# Altium integrated library Cypress USB Controllers.IntLib: 169 symbols (part 15 of 15)
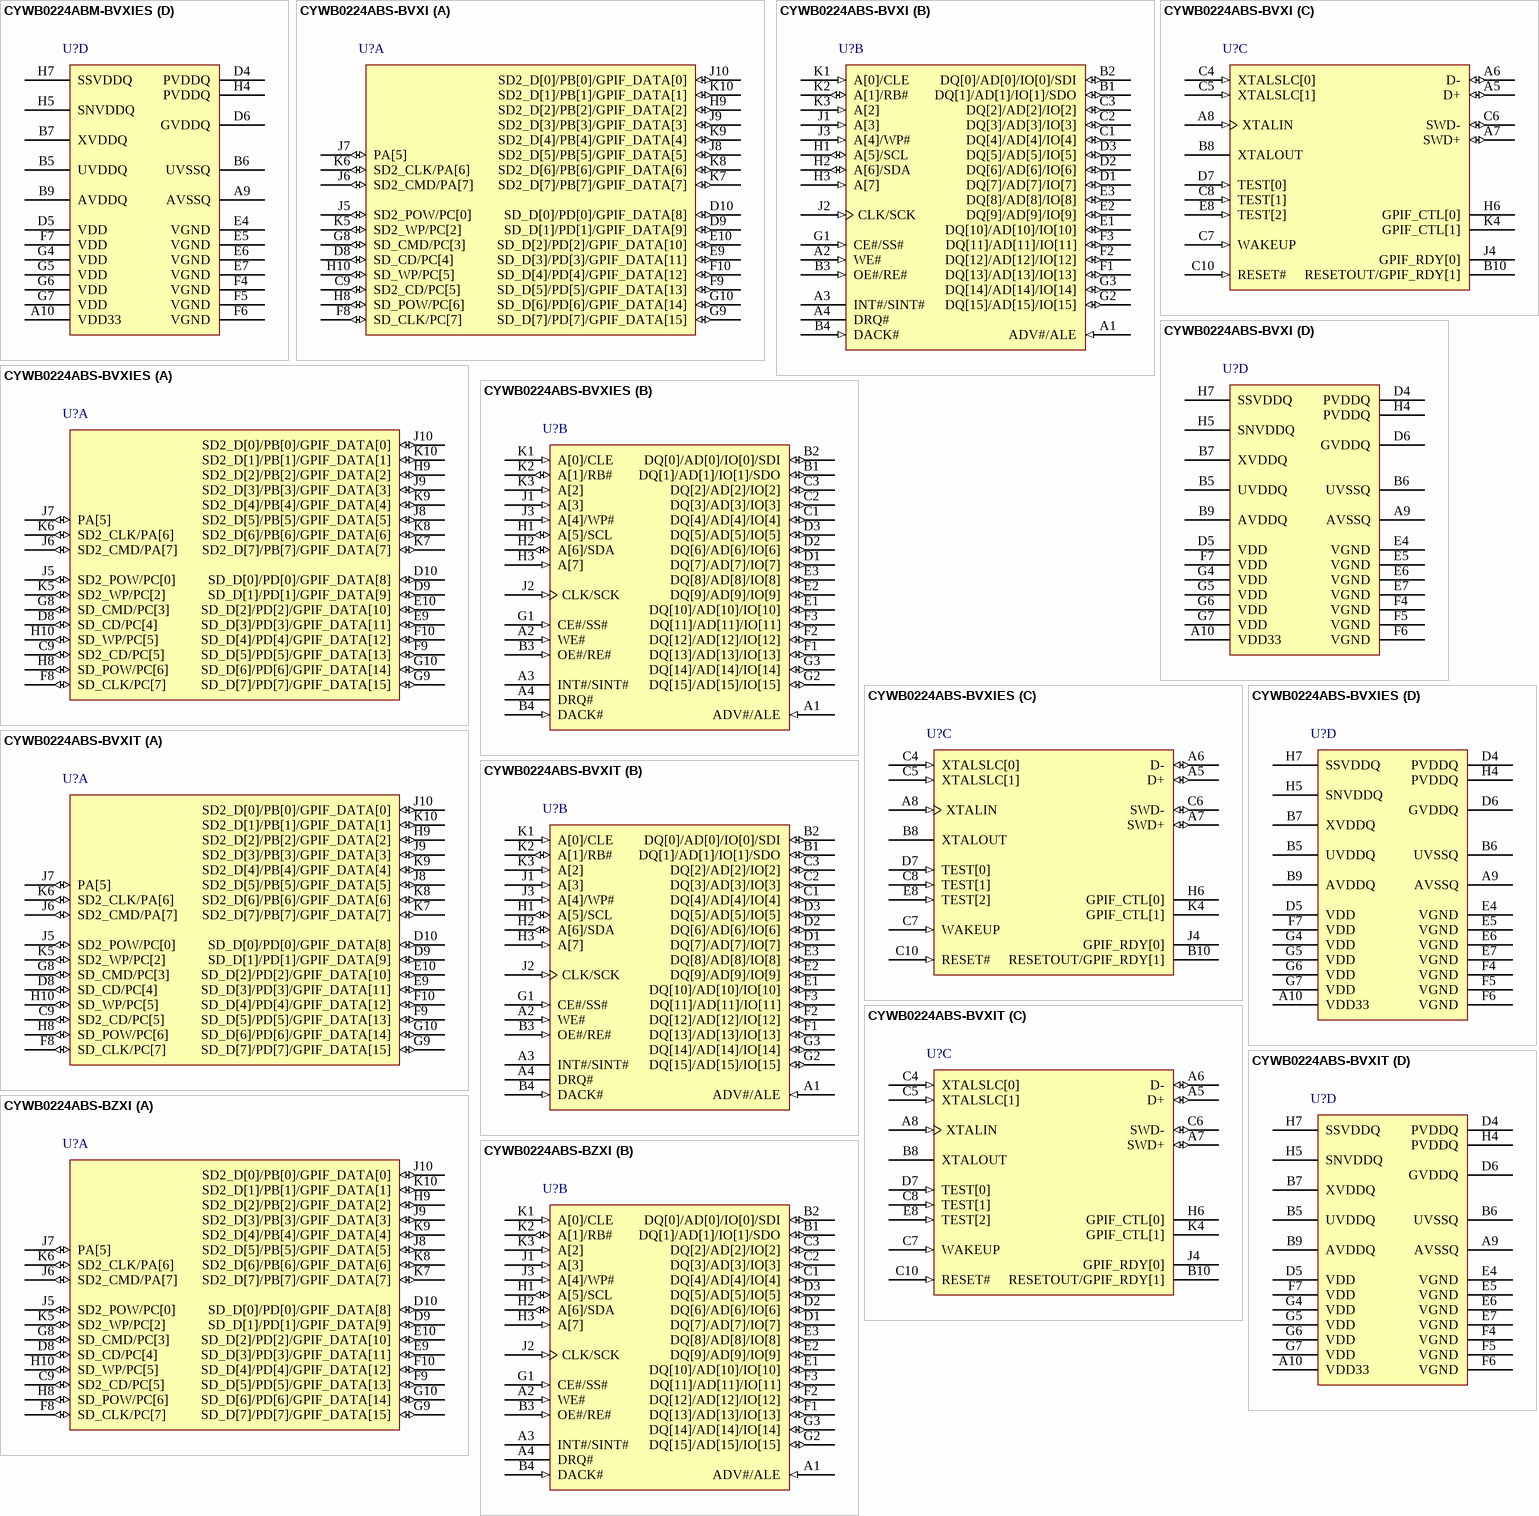
[diagram p36: symbols CYWB0224ABM-BVXIES to CYWB0224ABS-BZXI]

## CYWB0224ABM-BVXIES
designator U?
West Bridge(R) Astoria(TM) USB and Mass Storage Peripheral Controller, -40 to 85 degC, 100-Pin VFBGA (BVX100); Manufacturer: Cypress; PartNumber: CYWB0224ABM-BVXIES; Max. Operating Voltage (V): 3.3; Min. Operating Voltage (V): 1.8; Populated: Yes; DatasheetVersion: Rev. *N; PackageVersion: Rev. *D; PackageReference: BVX100; PackageDescription: 100-Ball Fine-Pitch Ball Grid Array, Body 6 x 6 mm, Pitch 0.50 mm; Max. Operating Temp. (degreesC): 85; Min. Operating Temp. (degreesC): -40; RoHS: Pb-Free; Mounting Technology: Surface Mount; ComponentLink1Description: Manufacturer URL; ComponentLink1URL: http://www.cypress.com/; ComponentLink2Description: Datasheet; ComponentLink2URL: http://www.cypress.com/?docID=41721; ComponentLink3Description: Package Specification; ComponentLink3URL: http://www.cypress.com/?docID=46966
footprint CYP-BVX100 (BGA, 100-Balls, Body 6x6mm, Pitch 0.5mm)
part A pins: C9 SD2_CD/PC[5] (io), D8 SD_CD/PC[4] (io), D9 SD_D[1]/PD[1]/GPIF_DATA[9] (io), D10 SD_D[0]/PD[0]/GPIF_DATA[8] (io), E9 SD_D[3]/PD[3]/GPIF_DATA[11] (io), E10 SD_D[2]/PD[2]/GPIF_DATA[10] (io), F8 SD_CLK/PC[7] (io), F9 SD_D[5]/PD[5]/GPIF_DATA[13] (io), F10 SD_D[4]/PD[4]/GPIF_DATA[12] (io), G8 SD_CMD/PC[3] (io), G9 SD_D[7]/PD[7]/GPIF_DATA[15] (io), G10 SD_D[6]/PD[6]/GPIF_DATA[14] (io), H8 SD_POW/PC[6] (io), H9 SD2_D[2]/PB[2]/GPIF_DATA[2] (io), H10 SD_WP/PC[5] (io) "SD Write Protect", J5 SD2_POW/PC[0] (io), J6 SD2_CMD/PA[7] (io), J7 PA[5] (io), J8 SD2_D[5]/PB[5]/GPIF_DATA[5] (io), J9 SD2_D[3]/PB[3]/GPIF_DATA[3] (io), J10 SD2_D[0]/PB[0]/GPIF_DATA[0] (io), K5 SD2_WP/PC[2] (io), K6 SD2_CLK/PA[6] (io), K7 SD2_D[7]/PB[7]/GPIF_DATA[7] (io), K8 SD2_D[6]/PB[6]/GPIF_DATA[6] (io), K9 SD2_D[4]/PB[4]/GPIF_DATA[4] (io), K10 SD2_D[1]/PB[1]/GPIF_DATA[1] (io)
part B pins: A1 ADV#/ALE (in), A2 WE# (in), A3 INT#/SINT# (hiz), A4 DRQ# (hiz) "DMA Request", B1 DQ[1]/AD[1]/IO[1]/SDO (io), B2 DQ[0]/AD[0]/IO[0]/SDI (io), B3 OE#/RE# (in), B4 DACK# (in) "DMA Acknowledgement", C1 DQ[4]/AD[4]/IO[4] (io), C2 DQ[3]/AD[3]/IO[3] (io), C3 DQ[2]/AD[2]/IO[2] (io), D1 DQ[7]/AD[7]/IO[7] (io), D2 DQ[6]/AD[6]/IO[6] (io), D3 DQ[5]/AD[5]/IO[5] (io), E1 DQ[10]/AD[10]/IO[10] (io), E2 DQ[9]/AD[9]/IO[9] (io), E3 DQ[8]/AD[8]/IO[8] (io), F1 DQ[13]/AD[13]/IO[13] (io), F2 DQ[12]/AD[12]/IO[12] (io), F3 DQ[11]/AD[11]/IO[11] (io), G1 CE#/SS# (in), G2 DQ[15]/AD[15]/IO[15] (io), G3 DQ[14]/AD[14]/IO[14] (io), H1 A[5]/SCL (io), H2 A[6]/SDA (io), H3 A[7] (in) "Addr. Bus 7", J1 A[3] (in) "Addr. Bus 3", J2 CLK/SCK (in), J3 A[4]/WP# (in), K1 A[0]/CLE (in), K2 A[1]/RB# (io), K3 A[2] (in) "Addr. Bus 2"
part C pins: A5 D+ (io) "USB D+", A6 D- (io) "USB D-", A7 SWD+ (io) "USB Switch DP", A8 XTALIN (in) "Crystal / Clock IN", B8 XTALOUT "Crystal Out", B10 RESETOUT/GPIF_RDY[1] (hiz), C4 XTALSLC[0] (in) "Clock Select 0", C5 XTALSLC[1] (in) "Clock Select 1", C6 SWD- (io) "USB Switch DM", C7 WAKEUP (in) "Wake Up Signal", C8 TEST[1] (in) "Test Cfg 1", C10 RESET# (in) "RESET", D7 TEST[0] (in) "Test Cfg 0", E8 TEST[2] (in) "Test Cfg 2", H6 GPIF_CTL[0] (hiz), J4 GPIF_RDY[0] (hiz), K4 GPIF_CTL[1] (hiz)
part D pins: A9 AVSSQ (power) "Analog GND", A10 VDD33 (power) "Independent 3.3 V", B5 UVDDQ (power) "USB VDD", B6 UVSSQ (power) "USB GND", B7 XVDDQ (power) "Crystal VDD", B9 AVDDQ (power) "Analog VDD", D4 PVDDQ (power) "Processor I/F VDD", D5 VDD (power) "Core VDD", D6 GVDDQ (power) "Misc I/O VDD", E4 VGND (power) "Core GND", E5 VGND (power) "Core GND", E6 VGND (power) "Core GND", E7 VGND (power) "Core GND", F4 VGND (power) "Core GND", F5 VGND (power) "Core GND", F6 VGND (power) "Core GND", F7 VDD (power) "Core VDD", G4 VDD (power) "Core VDD", G5 VDD (power) "Core VDD", G6 VDD (power) "Core VDD", G7 VDD (power) "Core VDD", H4 PVDDQ (power) "Processor I/F VDD", H5 SNVDDQ (power) "GPIF VDD", H7 SSVDDQ (power) "SDIO VDD"

## CYWB0224ABS-BVXI
designator U?
West Bridge(R) Astoria(TM) USB and Mass Storage Peripheral Controller, -40 to 85 degC, 100-Pin VFBGA (BVX100), Tray; Manufacturer: Cypress; PartNumber: CYWB0224ABS-BVXI; Max. Operating Voltage (V): 3.3; Min. Operating Voltage (V): 1.8; Populated: Yes; DatasheetVersion: Rev. *N; PackageVersion: Rev. *D; PackageReference: BVX100; PackageDescription: 100-Ball Fine-Pitch Ball Grid Array, Body 6 x 6 mm, Pitch 0.50 mm; Supplier 1: Digi-Key; Supplier Part Number 1: CYWB0224ABS-BVXI-ND; Max. Operating Temp. (degreesC): 85; Min. Operating Temp. (degreesC): -40; Packing: Tray; RoHS: Pb-Free; Mounting Technology: Surface Mount; ComponentLink1Description: Manufacturer URL; ComponentLink1URL: http://www.cypress.com/; ComponentLink2Description: Datasheet; ComponentLink2URL: http://www.cypress.com/?docID=41721; ComponentLink3Description: Package Specification; ComponentLink3URL: http://www.cypress.com/?docID=46966
footprint CYP-BVX100 (BGA, 100-Balls, Body 6x6mm, Pitch 0.5mm)
part A pins: C9 SD2_CD/PC[5] (io), D8 SD_CD/PC[4] (io), D9 SD_D[1]/PD[1]/GPIF_DATA[9] (io), D10 SD_D[0]/PD[0]/GPIF_DATA[8] (io), E9 SD_D[3]/PD[3]/GPIF_DATA[11] (io), E10 SD_D[2]/PD[2]/GPIF_DATA[10] (io), F8 SD_CLK/PC[7] (io), F9 SD_D[5]/PD[5]/GPIF_DATA[13] (io), F10 SD_D[4]/PD[4]/GPIF_DATA[12] (io), G8 SD_CMD/PC[3] (io), G9 SD_D[7]/PD[7]/GPIF_DATA[15] (io), G10 SD_D[6]/PD[6]/GPIF_DATA[14] (io), H8 SD_POW/PC[6] (io), H9 SD2_D[2]/PB[2]/GPIF_DATA[2] (io), H10 SD_WP/PC[5] (io) "SD Write Protect", J5 SD2_POW/PC[0] (io), J6 SD2_CMD/PA[7] (io), J7 PA[5] (io), J8 SD2_D[5]/PB[5]/GPIF_DATA[5] (io), J9 SD2_D[3]/PB[3]/GPIF_DATA[3] (io), J10 SD2_D[0]/PB[0]/GPIF_DATA[0] (io), K5 SD2_WP/PC[2] (io), K6 SD2_CLK/PA[6] (io), K7 SD2_D[7]/PB[7]/GPIF_DATA[7] (io), K8 SD2_D[6]/PB[6]/GPIF_DATA[6] (io), K9 SD2_D[4]/PB[4]/GPIF_DATA[4] (io), K10 SD2_D[1]/PB[1]/GPIF_DATA[1] (io)
part B pins: A1 ADV#/ALE (in), A2 WE# (in), A3 INT#/SINT# (hiz), A4 DRQ# (hiz) "DMA Request", B1 DQ[1]/AD[1]/IO[1]/SDO (io), B2 DQ[0]/AD[0]/IO[0]/SDI (io), B3 OE#/RE# (in), B4 DACK# (in) "DMA Acknowledgement", C1 DQ[4]/AD[4]/IO[4] (io), C2 DQ[3]/AD[3]/IO[3] (io), C3 DQ[2]/AD[2]/IO[2] (io), D1 DQ[7]/AD[7]/IO[7] (io), D2 DQ[6]/AD[6]/IO[6] (io), D3 DQ[5]/AD[5]/IO[5] (io), E1 DQ[10]/AD[10]/IO[10] (io), E2 DQ[9]/AD[9]/IO[9] (io), E3 DQ[8]/AD[8]/IO[8] (io), F1 DQ[13]/AD[13]/IO[13] (io), F2 DQ[12]/AD[12]/IO[12] (io), F3 DQ[11]/AD[11]/IO[11] (io), G1 CE#/SS# (in), G2 DQ[15]/AD[15]/IO[15] (io), G3 DQ[14]/AD[14]/IO[14] (io), H1 A[5]/SCL (io), H2 A[6]/SDA (io), H3 A[7] (in) "Addr. Bus 7", J1 A[3] (in) "Addr. Bus 3", J2 CLK/SCK (in), J3 A[4]/WP# (in), K1 A[0]/CLE (in), K2 A[1]/RB# (io), K3 A[2] (in) "Addr. Bus 2"
part C pins: A5 D+ (io) "USB D+", A6 D- (io) "USB D-", A7 SWD+ (io) "USB Switch DP", A8 XTALIN (in) "Crystal / Clock IN", B8 XTALOUT "Crystal Out", B10 RESETOUT/GPIF_RDY[1] (hiz), C4 XTALSLC[0] (in) "Clock Select 0", C5 XTALSLC[1] (in) "Clock Select 1", C6 SWD- (io) "USB Switch DM", C7 WAKEUP (in) "Wake Up Signal", C8 TEST[1] (in) "Test Cfg 1", C10 RESET# (in) "RESET", D7 TEST[0] (in) "Test Cfg 0", E8 TEST[2] (in) "Test Cfg 2", H6 GPIF_CTL[0] (hiz), J4 GPIF_RDY[0] (hiz), K4 GPIF_CTL[1] (hiz)
part D pins: A9 AVSSQ (power) "Analog GND", A10 VDD33 (power) "Independent 3.3 V", B5 UVDDQ (power) "USB VDD", B6 UVSSQ (power) "USB GND", B7 XVDDQ (power) "Crystal VDD", B9 AVDDQ (power) "Analog VDD", D4 PVDDQ (power) "Processor I/F VDD", D5 VDD (power) "Core VDD", D6 GVDDQ (power) "Misc I/O VDD", E4 VGND (power) "Core GND", E5 VGND (power) "Core GND", E6 VGND (power) "Core GND", E7 VGND (power) "Core GND", F4 VGND (power) "Core GND", F5 VGND (power) "Core GND", F6 VGND (power) "Core GND", F7 VDD (power) "Core VDD", G4 VDD (power) "Core VDD", G5 VDD (power) "Core VDD", G6 VDD (power) "Core VDD", G7 VDD (power) "Core VDD", H4 PVDDQ (power) "Processor I/F VDD", H5 SNVDDQ (power) "GPIF VDD", H7 SSVDDQ (power) "SDIO VDD"

## CYWB0224ABS-BVXIES
designator U?
West Bridge(R) Astoria(TM) USB and Mass Storage Peripheral Controller, -40 to 85 degC, 100-Pin VFBGA (BVX100), Tray; Manufacturer: Cypress; PartNumber: CYWB0224ABS-BVXIES; Max. Operating Voltage (V): 3.3; Min. Operating Voltage (V): 1.8; Populated: Yes; DatasheetVersion: Rev. *N; PackageVersion: Rev. *D; PackageReference: BVX100; PackageDescription: 100-Ball Fine-Pitch Ball Grid Array, Body 6 x 6 mm, Pitch 0.50 mm; Max. Operating Temp. (degreesC): 85; Min. Operating Temp. (degreesC): -40; Packing: Tray; RoHS: Pb-Free; Mounting Technology: Surface Mount; ComponentLink1Description: Manufacturer URL; ComponentLink1URL: http://www.cypress.com/; ComponentLink2Description: Datasheet; ComponentLink2URL: http://www.cypress.com/?docID=41721; ComponentLink3Description: Package Specification; ComponentLink3URL: http://www.cypress.com/?docID=46966
footprint CYP-BVX100 (BGA, 100-Balls, Body 6x6mm, Pitch 0.5mm)
part A pins: C9 SD2_CD/PC[5] (io), D8 SD_CD/PC[4] (io), D9 SD_D[1]/PD[1]/GPIF_DATA[9] (io), D10 SD_D[0]/PD[0]/GPIF_DATA[8] (io), E9 SD_D[3]/PD[3]/GPIF_DATA[11] (io), E10 SD_D[2]/PD[2]/GPIF_DATA[10] (io), F8 SD_CLK/PC[7] (io), F9 SD_D[5]/PD[5]/GPIF_DATA[13] (io), F10 SD_D[4]/PD[4]/GPIF_DATA[12] (io), G8 SD_CMD/PC[3] (io), G9 SD_D[7]/PD[7]/GPIF_DATA[15] (io), G10 SD_D[6]/PD[6]/GPIF_DATA[14] (io), H8 SD_POW/PC[6] (io), H9 SD2_D[2]/PB[2]/GPIF_DATA[2] (io), H10 SD_WP/PC[5] (io) "SD Write Protect", J5 SD2_POW/PC[0] (io), J6 SD2_CMD/PA[7] (io), J7 PA[5] (io), J8 SD2_D[5]/PB[5]/GPIF_DATA[5] (io), J9 SD2_D[3]/PB[3]/GPIF_DATA[3] (io), J10 SD2_D[0]/PB[0]/GPIF_DATA[0] (io), K5 SD2_WP/PC[2] (io), K6 SD2_CLK/PA[6] (io), K7 SD2_D[7]/PB[7]/GPIF_DATA[7] (io), K8 SD2_D[6]/PB[6]/GPIF_DATA[6] (io), K9 SD2_D[4]/PB[4]/GPIF_DATA[4] (io), K10 SD2_D[1]/PB[1]/GPIF_DATA[1] (io)
part B pins: A1 ADV#/ALE (in), A2 WE# (in), A3 INT#/SINT# (hiz), A4 DRQ# (hiz) "DMA Request", B1 DQ[1]/AD[1]/IO[1]/SDO (io), B2 DQ[0]/AD[0]/IO[0]/SDI (io), B3 OE#/RE# (in), B4 DACK# (in) "DMA Acknowledgement", C1 DQ[4]/AD[4]/IO[4] (io), C2 DQ[3]/AD[3]/IO[3] (io), C3 DQ[2]/AD[2]/IO[2] (io), D1 DQ[7]/AD[7]/IO[7] (io), D2 DQ[6]/AD[6]/IO[6] (io), D3 DQ[5]/AD[5]/IO[5] (io), E1 DQ[10]/AD[10]/IO[10] (io), E2 DQ[9]/AD[9]/IO[9] (io), E3 DQ[8]/AD[8]/IO[8] (io), F1 DQ[13]/AD[13]/IO[13] (io), F2 DQ[12]/AD[12]/IO[12] (io), F3 DQ[11]/AD[11]/IO[11] (io), G1 CE#/SS# (in), G2 DQ[15]/AD[15]/IO[15] (io), G3 DQ[14]/AD[14]/IO[14] (io), H1 A[5]/SCL (io), H2 A[6]/SDA (io), H3 A[7] (in) "Addr. Bus 7", J1 A[3] (in) "Addr. Bus 3", J2 CLK/SCK (in), J3 A[4]/WP# (in), K1 A[0]/CLE (in), K2 A[1]/RB# (io), K3 A[2] (in) "Addr. Bus 2"
part C pins: A5 D+ (io) "USB D+", A6 D- (io) "USB D-", A7 SWD+ (io) "USB Switch DP", A8 XTALIN (in) "Crystal / Clock IN", B8 XTALOUT "Crystal Out", B10 RESETOUT/GPIF_RDY[1] (hiz), C4 XTALSLC[0] (in) "Clock Select 0", C5 XTALSLC[1] (in) "Clock Select 1", C6 SWD- (io) "USB Switch DM", C7 WAKEUP (in) "Wake Up Signal", C8 TEST[1] (in) "Test Cfg 1", C10 RESET# (in) "RESET", D7 TEST[0] (in) "Test Cfg 0", E8 TEST[2] (in) "Test Cfg 2", H6 GPIF_CTL[0] (hiz), J4 GPIF_RDY[0] (hiz), K4 GPIF_CTL[1] (hiz)
part D pins: A9 AVSSQ (power) "Analog GND", A10 VDD33 (power) "Independent 3.3 V", B5 UVDDQ (power) "USB VDD", B6 UVSSQ (power) "USB GND", B7 XVDDQ (power) "Crystal VDD", B9 AVDDQ (power) "Analog VDD", D4 PVDDQ (power) "Processor I/F VDD", D5 VDD (power) "Core VDD", D6 GVDDQ (power) "Misc I/O VDD", E4 VGND (power) "Core GND", E5 VGND (power) "Core GND", E6 VGND (power) "Core GND", E7 VGND (power) "Core GND", F4 VGND (power) "Core GND", F5 VGND (power) "Core GND", F6 VGND (power) "Core GND", F7 VDD (power) "Core VDD", G4 VDD (power) "Core VDD", G5 VDD (power) "Core VDD", G6 VDD (power) "Core VDD", G7 VDD (power) "Core VDD", H4 PVDDQ (power) "Processor I/F VDD", H5 SNVDDQ (power) "GPIF VDD", H7 SSVDDQ (power) "SDIO VDD"

## CYWB0224ABS-BVXIT
designator U?
West Bridge(R) Astoria(TM) USB and Mass Storage Peripheral Controller, -40 to 85 degC, 100-Pin VFBGA (BVX100), Tape and Reel; Manufacturer: Cypress; PartNumber: CYWB0224ABS-BVXIT; Max. Operating Voltage (V): 3.3; Min. Operating Voltage (V): 1.8; Populated: Yes; DatasheetVersion: Rev. *N; PackageVersion: Rev. *D; PackageReference: BVX100; PackageDescription: 100-Ball Fine-Pitch Ball Grid Array, Body 6 x 6 mm, Pitch 0.50 mm; Supplier 1: Digi-Key; Supplier Part Number 1: CYWB0224ABS-BVXIT-ND; Max. Operating Temp. (degreesC): 85; Min. Operating Temp. (degreesC): -40; Packing: Tape and Reel; RoHS: Pb-Free; Mounting Technology: Surface Mount; ComponentLink1Description: Manufacturer URL; ComponentLink1URL: http://www.cypress.com/; ComponentLink2Description: Datasheet; ComponentLink2URL: http://www.cypress.com/?docID=41721; ComponentLink3Description: Package Specification; ComponentLink3URL: http://www.cypress.com/?docID=46966
footprint CYP-BVX100 (BGA, 100-Balls, Body 6x6mm, Pitch 0.5mm)
part A pins: C9 SD2_CD/PC[5] (io), D8 SD_CD/PC[4] (io), D9 SD_D[1]/PD[1]/GPIF_DATA[9] (io), D10 SD_D[0]/PD[0]/GPIF_DATA[8] (io), E9 SD_D[3]/PD[3]/GPIF_DATA[11] (io), E10 SD_D[2]/PD[2]/GPIF_DATA[10] (io), F8 SD_CLK/PC[7] (io), F9 SD_D[5]/PD[5]/GPIF_DATA[13] (io), F10 SD_D[4]/PD[4]/GPIF_DATA[12] (io), G8 SD_CMD/PC[3] (io), G9 SD_D[7]/PD[7]/GPIF_DATA[15] (io), G10 SD_D[6]/PD[6]/GPIF_DATA[14] (io), H8 SD_POW/PC[6] (io), H9 SD2_D[2]/PB[2]/GPIF_DATA[2] (io), H10 SD_WP/PC[5] (io) "SD Write Protect", J5 SD2_POW/PC[0] (io), J6 SD2_CMD/PA[7] (io), J7 PA[5] (io), J8 SD2_D[5]/PB[5]/GPIF_DATA[5] (io), J9 SD2_D[3]/PB[3]/GPIF_DATA[3] (io), J10 SD2_D[0]/PB[0]/GPIF_DATA[0] (io), K5 SD2_WP/PC[2] (io), K6 SD2_CLK/PA[6] (io), K7 SD2_D[7]/PB[7]/GPIF_DATA[7] (io), K8 SD2_D[6]/PB[6]/GPIF_DATA[6] (io), K9 SD2_D[4]/PB[4]/GPIF_DATA[4] (io), K10 SD2_D[1]/PB[1]/GPIF_DATA[1] (io)
part B pins: A1 ADV#/ALE (in), A2 WE# (in), A3 INT#/SINT# (hiz), A4 DRQ# (hiz) "DMA Request", B1 DQ[1]/AD[1]/IO[1]/SDO (io), B2 DQ[0]/AD[0]/IO[0]/SDI (io), B3 OE#/RE# (in), B4 DACK# (in) "DMA Acknowledgement", C1 DQ[4]/AD[4]/IO[4] (io), C2 DQ[3]/AD[3]/IO[3] (io), C3 DQ[2]/AD[2]/IO[2] (io), D1 DQ[7]/AD[7]/IO[7] (io), D2 DQ[6]/AD[6]/IO[6] (io), D3 DQ[5]/AD[5]/IO[5] (io), E1 DQ[10]/AD[10]/IO[10] (io), E2 DQ[9]/AD[9]/IO[9] (io), E3 DQ[8]/AD[8]/IO[8] (io), F1 DQ[13]/AD[13]/IO[13] (io), F2 DQ[12]/AD[12]/IO[12] (io), F3 DQ[11]/AD[11]/IO[11] (io), G1 CE#/SS# (in), G2 DQ[15]/AD[15]/IO[15] (io), G3 DQ[14]/AD[14]/IO[14] (io), H1 A[5]/SCL (io), H2 A[6]/SDA (io), H3 A[7] (in) "Addr. Bus 7", J1 A[3] (in) "Addr. Bus 3", J2 CLK/SCK (in), J3 A[4]/WP# (in), K1 A[0]/CLE (in), K2 A[1]/RB# (io), K3 A[2] (in) "Addr. Bus 2"
part C pins: A5 D+ (io) "USB D+", A6 D- (io) "USB D-", A7 SWD+ (io) "USB Switch DP", A8 XTALIN (in) "Crystal / Clock IN", B8 XTALOUT "Crystal Out", B10 RESETOUT/GPIF_RDY[1] (hiz), C4 XTALSLC[0] (in) "Clock Select 0", C5 XTALSLC[1] (in) "Clock Select 1", C6 SWD- (io) "USB Switch DM", C7 WAKEUP (in) "Wake Up Signal", C8 TEST[1] (in) "Test Cfg 1", C10 RESET# (in) "RESET", D7 TEST[0] (in) "Test Cfg 0", E8 TEST[2] (in) "Test Cfg 2", H6 GPIF_CTL[0] (hiz), J4 GPIF_RDY[0] (hiz), K4 GPIF_CTL[1] (hiz)
part D pins: A9 AVSSQ (power) "Analog GND", A10 VDD33 (power) "Independent 3.3 V", B5 UVDDQ (power) "USB VDD", B6 UVSSQ (power) "USB GND", B7 XVDDQ (power) "Crystal VDD", B9 AVDDQ (power) "Analog VDD", D4 PVDDQ (power) "Processor I/F VDD", D5 VDD (power) "Core VDD", D6 GVDDQ (power) "Misc I/O VDD", E4 VGND (power) "Core GND", E5 VGND (power) "Core GND", E6 VGND (power) "Core GND", E7 VGND (power) "Core GND", F4 VGND (power) "Core GND", F5 VGND (power) "Core GND", F6 VGND (power) "Core GND", F7 VDD (power) "Core VDD", G4 VDD (power) "Core VDD", G5 VDD (power) "Core VDD", G6 VDD (power) "Core VDD", G7 VDD (power) "Core VDD", H4 PVDDQ (power) "Processor I/F VDD", H5 SNVDDQ (power) "GPIF VDD", H7 SSVDDQ (power) "SDIO VDD"

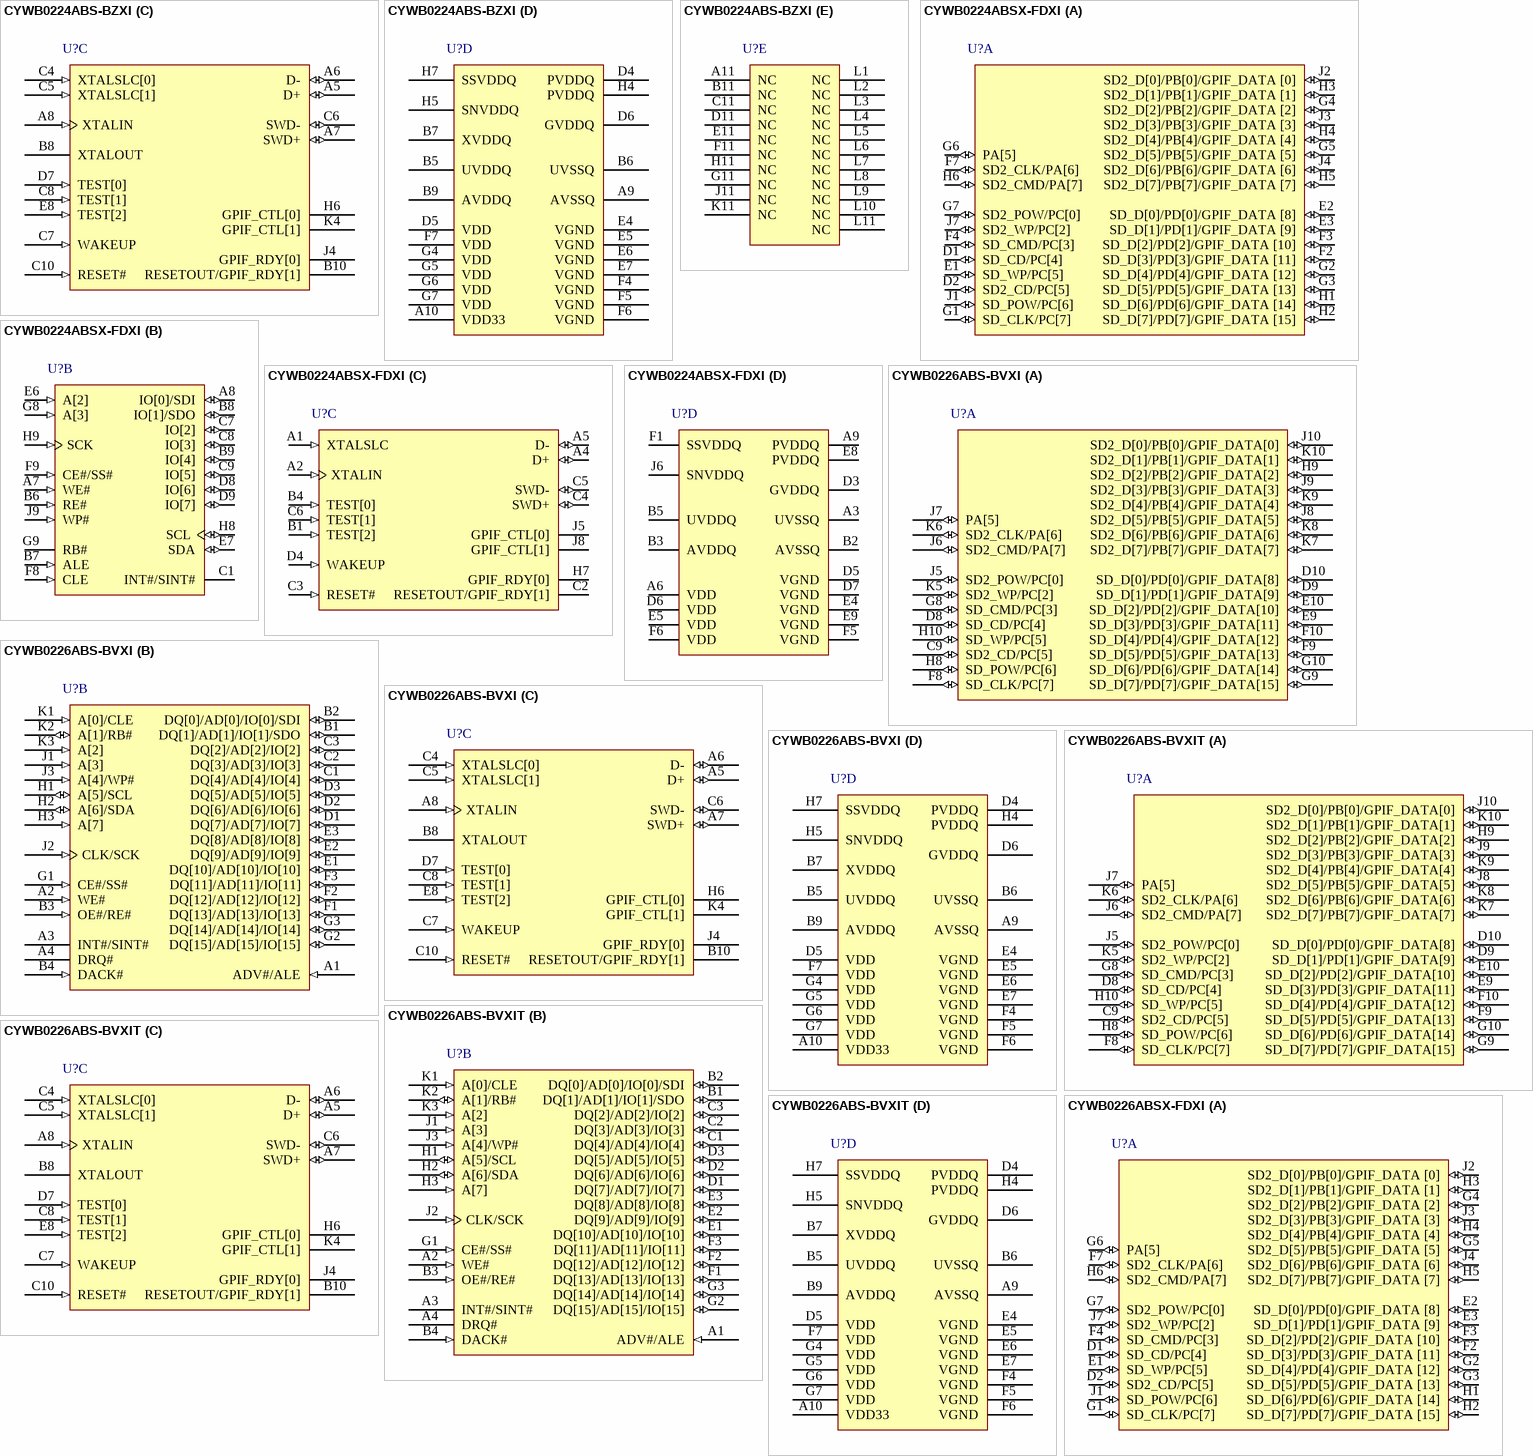
[diagram p20: symbols CYWB0224ABS-BZXI to CYWB0226ABSX-FDXI]

## CYWB0224ABS-BZXI
designator U?
West Bridge(R) Astoria(TM) USB and Mass Storage Peripheral Controller, -40 to 85 degC, 121-Pin FBGA (BZX121); Manufacturer: Cypress; PartNumber: CYWB0224ABS-BZXI; Max. Operating Voltage (V): 3.3; Min. Operating Voltage (V): 1.8; Populated: Yes; DatasheetVersion: Rev. *N; PackageVersion: Rev. *D; PackageReference: BZX121; PackageDescription: 121-Ball FBGA, Body 10 x 10 mm, Pitch 0.8 mm; Supplier 1: Digi-Key; Supplier Part Number 1: CYWB0224ABS-BZXI-ND; Max. Operating Temp. (degreesC): 85; Min. Operating Temp. (degreesC): -40; RoHS: Pb-Free; Mounting Technology: Surface Mount; Code_JEDEC: PUB 95; ComponentLink1Description: Manufacturer URL; ComponentLink1URL: http://www.cypress.com/; ComponentLink2Description: Datasheet; ComponentLink2URL: http://www.cypress.com/?docID=41721; ComponentLink3Description: Package Specification; ComponentLink3URL: http://www.cypress.com/?docID=45795
footprint CYP-BZX121 (BGA, 121-Balls, Body 10x10mm, Pitch 0.8mm)
part A pins: C9 SD2_CD/PC[5] (io), D8 SD_CD/PC[4] (io), D9 SD_D[1]/PD[1]/GPIF_DATA[9] (io), D10 SD_D[0]/PD[0]/GPIF_DATA[8] (io), E9 SD_D[3]/PD[3]/GPIF_DATA[11] (io), E10 SD_D[2]/PD[2]/GPIF_DATA[10] (io), F8 SD_CLK/PC[7] (io), F9 SD_D[5]/PD[5]/GPIF_DATA[13] (io), F10 SD_D[4]/PD[4]/GPIF_DATA[12] (io), G8 SD_CMD/PC[3] (io), G9 SD_D[7]/PD[7]/GPIF_DATA[15] (io), G10 SD_D[6]/PD[6]/GPIF_DATA[14] (io), H8 SD_POW/PC[6] (io), H9 SD2_D[2]/PB[2]/GPIF_DATA[2] (io), H10 SD_WP/PC[5] (io) "SD Write Protect", J5 SD2_POW/PC[0] (io), J6 SD2_CMD/PA[7] (io), J7 PA[5] (io), J8 SD2_D[5]/PB[5]/GPIF_DATA[5] (io), J9 SD2_D[3]/PB[3]/GPIF_DATA[3] (io), J10 SD2_D[0]/PB[0]/GPIF_DATA[0] (io), K5 SD2_WP/PC[2] (io), K6 SD2_CLK/PA[6] (io), K7 SD2_D[7]/PB[7]/GPIF_DATA[7] (io), K8 SD2_D[6]/PB[6]/GPIF_DATA[6] (io), K9 SD2_D[4]/PB[4]/GPIF_DATA[4] (io), K10 SD2_D[1]/PB[1]/GPIF_DATA[1] (io)
part B pins: A1 ADV#/ALE (in), A2 WE# (in), A3 INT#/SINT# (hiz), A4 DRQ# (hiz) "DMA Request", B1 DQ[1]/AD[1]/IO[1]/SDO (io), B2 DQ[0]/AD[0]/IO[0]/SDI (io), B3 OE#/RE# (in), B4 DACK# (in) "DMA Acknowledgement", C1 DQ[4]/AD[4]/IO[4] (io), C2 DQ[3]/AD[3]/IO[3] (io), C3 DQ[2]/AD[2]/IO[2] (io), D1 DQ[7]/AD[7]/IO[7] (io), D2 DQ[6]/AD[6]/IO[6] (io), D3 DQ[5]/AD[5]/IO[5] (io), E1 DQ[10]/AD[10]/IO[10] (io), E2 DQ[9]/AD[9]/IO[9] (io), E3 DQ[8]/AD[8]/IO[8] (io), F1 DQ[13]/AD[13]/IO[13] (io), F2 DQ[12]/AD[12]/IO[12] (io), F3 DQ[11]/AD[11]/IO[11] (io), G1 CE#/SS# (in), G2 DQ[15]/AD[15]/IO[15] (io), G3 DQ[14]/AD[14]/IO[14] (io), H1 A[5]/SCL (io), H2 A[6]/SDA (io), H3 A[7] (in) "Addr. Bus 7", J1 A[3] (in) "Addr. Bus 3", J2 CLK/SCK (in), J3 A[4]/WP# (in), K1 A[0]/CLE (in), K2 A[1]/RB# (io), K3 A[2] (in) "Addr. Bus 2"
part C pins: A5 D+ (io) "USB D+", A6 D- (io) "USB D-", A7 SWD+ (io) "USB Switch DP", A8 XTALIN (in) "Crystal / Clock IN", B8 XTALOUT "Crystal Out", B10 RESETOUT/GPIF_RDY[1] (hiz), C4 XTALSLC[0] (in) "Clock Select 0", C5 XTALSLC[1] (in) "Clock Select 1", C6 SWD- (io) "USB Switch DM", C7 WAKEUP (in) "Wake Up Signal", C8 TEST[1] (in) "Test Cfg 1", C10 RESET# (in) "RESET", D7 TEST[0] (in) "Test Cfg 0", E8 TEST[2] (in) "Test Cfg 2", H6 GPIF_CTL[0] (hiz), J4 GPIF_RDY[0] (hiz), K4 GPIF_CTL[1] (hiz)
part D pins: A9 AVSSQ (power) "Analog GND", A10 VDD33 (power) "Independent 3.3 V", B5 UVDDQ (power) "USB VDD", B6 UVSSQ (power) "USB GND", B7 XVDDQ (power) "Crystal VDD", B9 AVDDQ (power) "Analog VDD", D4 PVDDQ (power) "Processor I/F VDD", D5 VDD (power) "Core VDD", D6 GVDDQ (power) "Misc I/O VDD", E4 VGND (power) "Core GND", E5 VGND (power) "Core GND", E6 VGND (power) "Core GND", E7 VGND (power) "Core GND", F4 VGND (power) "Core GND", F5 VGND (power) "Core GND", F6 VGND (power) "Core GND", F7 VDD (power) "Core VDD", G4 VDD (power) "Core VDD", G5 VDD (power) "Core VDD", G6 VDD (power) "Core VDD", G7 VDD (power) "Core VDD", H4 PVDDQ (power) "Processor I/F VDD", H5 SNVDDQ (power) "GPIF VDD", H7 SSVDDQ (power) "SDIO VDD"
part E pins: A11 NC, B11 NC, C11 NC, D11 NC, E11 NC, F11 NC, G11 NC, H11 NC, J11 NC, K11 NC, L1 NC, L2 NC, L3 NC, L4 NC, L5 NC, L6 NC, L7 NC, L8 NC, L9 NC, L10 NC, L11 NC

## CYWB0224ABSX-FDXI
designator U?
West Bridge(R) Astoria(TM) USB and Mass Storage Peripheral Controller, -40 to 85 degC, 81-Pin WLCSP (FNX81), Tape and Reel; Manufacturer: Cypress; PartNumber: CYWB0224ABSX-FDXI; Max. Operating Voltage (V): 3.3; Min. Operating Voltage (V): 1.8; Populated: Yes; DatasheetVersion: Rev. *N; PackageVersion: Rev. *C; PackageReference: FNX81; PackageDescription: 81-Ball WLCSP, Body 3.91 x 3.907 mm, Pitch 0.4 mm; Max. Operating Temp. (degreesC): 85; Min. Operating Temp. (degreesC): -40; Packing: Tape and Reel; RoHS: Pb-Free; Mounting Technology: Surface Mount; Code_JEDEC: Publication 95; ComponentLink1Description: Manufacturer URL; ComponentLink1URL: http://www.cypress.com/; ComponentLink2Description: Datasheet; ComponentLink2URL: http://www.cypress.com/?docID=41721; ComponentLink3Description: Package Specification; ComponentLink3URL: http://www.cypress.com/?docID=45114
footprint CYP-FNX81 (BGA, 81-Balls, Body 3.91x3.91mm, Pitch 0.4mm)
part A pins: D1 SD_CD/PC[4] (io), D2 SD2_CD/PC[5] (io), E1 SD_WP/PC[5] (io), E2 SD_D[0]/PD[0]/GPIF_DATA [8] (io), E3 SD_D[1]/PD[1]/GPIF_DATA [9] (io), F2 SD_D[3]/PD[3]/GPIF_DATA [11] (io), F3 SD_D[2]/PD[2]/GPIF_DATA [10] (io), F4 SD_CMD/PC[3] (io), F7 SD2_CLK/PA[6] (io), G1 SD_CLK/PC[7] (io), G2 SD_D[4]/PD[4]/GPIF_DATA [12] (io), G3 SD_D[5]/PD[5]/GPIF_DATA [13] (io), G4 SD2_D[2]/PB[2]/GPIF_DATA [2] (io), G5 SD2_D[5]/PB[5]/GPIF_DATA [5] (io), G6 PA[5] (io), G7 SD2_POW/PC[0] (io), H1 SD_D[6]/PD[6]/GPIF_DATA [14] (io), H2 SD_D[7]/PD[7]/GPIF_DATA [15] (io), H3 SD2_D[1]/PB[1]/GPIF_DATA [1] (io), H4 SD2_D[4]/PB[4]/GPIF_DATA [4] (io), H5 SD2_D[7]/PB[7]/GPIF_DATA [7] (io), H6 SD2_CMD/PA[7] (io), J1 SD_POW/PC[6] (io), J2 SD2_D[0]/PB[0]/GPIF_DATA [0] (io), J3 SD2_D[3]/PB[3]/GPIF_DATA [3] (io), J4 SD2_D[6]/PB[6]/GPIF_DATA [6] (io), J7 SD2_WP/PC[2] (io)
part B pins: A7 WE# (in), A8 IO[0]/SDI (io), B6 RE# (in) "Output Enable", B7 ALE (in) "Address Valid", B8 IO[1]/SDO (io), B9 IO[4] (io), C1 INT#/SINT# (hiz), C7 IO[2] (io), C8 IO[3] (io), C9 IO[5] (io), D8 IO[6] (io), D9 IO[7] (io), E6 A[2] (in), E7 SDA (io) "I2C data", F8 CLE (in) "PNAND CLE", F9 CE#/SS# (in), G8 A[3] (in), G9 RB# (hiz) "PNAND R/B#", H8 SCL (io) "I2C clock", H9 SCK (in) "Clock", J9 WP# (in) "PNAND WP"
part C pins: A1 XTALSLC (in) "Clock Select", A2 XTALIN (in) "Crystal / Clock IN", A4 D+ (io) "USB D+", A5 D- (io) "USB D-", B1 TEST[2] (in) "Test Cfg 2", B4 TEST[0] (in) "Test Cfg 0", C2 RESETOUT/GPIF_RDY[1] (hiz), C3 RESET# (in) "RESET", C4 SWD+ (io), C5 SWD- (io), C6 TEST[1] (in) "Test Cfg 1", D4 WAKEUP (in) "Wake Up Signal", H7 GPIF_RDY[0] (hiz), J5 GPIF_CTL[0] (hiz), J8 GPIF_CTL[1] (hiz)
part D pins: A3 UVSSQ (power) "USB GND", A6 VDD (power) "Core VDD", A9 PVDDQ (power) "Processor I/F VDD", B2 AVSSQ (power) "Analog GND", B3 AVDDQ (power) "Analog VDD", B5 UVDDQ (power) "USB VDD", D3 GVDDQ (power) "Misc I/O VDD", D5 VGND (power) "Core GND", D6 VDD (power) "Core VDD", D7 VGND (power) "Core GND", E4 VGND (power) "Core GND", E5 VDD (power) "Core VDD", E8 PVDDQ (power) "Processor I/F VDD", E9 VGND (power) "Core GND", F1 SSVDDQ (power) "SDIO VDD", F5 VGND (power) "Core GND", F6 VDD (power) "Core VDD", J6 SNVDDQ (power) "GPIF VDD"

## CYWB0226ABS-BVXI
designator U?
West Bridge(R) Astoria(TM) USB and Mass Storage Peripheral Controller, -40 to 85 degC, 100-Pin VFBGA (BVX100), Tray; Manufacturer: Cypress; PartNumber: CYWB0226ABS-BVXI; Max. Operating Voltage (V): 3.3; Min. Operating Voltage (V): 1.8; Populated: Yes; DatasheetVersion: Rev. *N; PackageVersion: Rev. *D; PackageReference: BVX100; PackageDescription: 100-Ball Fine-Pitch Ball Grid Array, Body 6 x 6 mm, Pitch 0.50 mm; Supplier 1: Digi-Key; Supplier Part Number 1: CYWB0226ABS-BVXI-ND; Max. Operating Temp. (degreesC): 85; Min. Operating Temp. (degreesC): -40; Packing: Tray; RoHS: Pb-Free; Mounting Technology: Surface Mount; ComponentLink1Description: Manufacturer URL; ComponentLink1URL: http://www.cypress.com/; ComponentLink2Description: Datasheet; ComponentLink2URL: http://www.cypress.com/?docID=41721; ComponentLink3Description: Package Specification; ComponentLink3URL: http://www.cypress.com/?docID=46966
footprint CYP-BVX100 (BGA, 100-Balls, Body 6x6mm, Pitch 0.5mm)
part A pins: C9 SD2_CD/PC[5] (io), D8 SD_CD/PC[4] (io), D9 SD_D[1]/PD[1]/GPIF_DATA[9] (io), D10 SD_D[0]/PD[0]/GPIF_DATA[8] (io), E9 SD_D[3]/PD[3]/GPIF_DATA[11] (io), E10 SD_D[2]/PD[2]/GPIF_DATA[10] (io), F8 SD_CLK/PC[7] (io), F9 SD_D[5]/PD[5]/GPIF_DATA[13] (io), F10 SD_D[4]/PD[4]/GPIF_DATA[12] (io), G8 SD_CMD/PC[3] (io), G9 SD_D[7]/PD[7]/GPIF_DATA[15] (io), G10 SD_D[6]/PD[6]/GPIF_DATA[14] (io), H8 SD_POW/PC[6] (io), H9 SD2_D[2]/PB[2]/GPIF_DATA[2] (io), H10 SD_WP/PC[5] (io) "SD Write Protect", J5 SD2_POW/PC[0] (io), J6 SD2_CMD/PA[7] (io), J7 PA[5] (io), J8 SD2_D[5]/PB[5]/GPIF_DATA[5] (io), J9 SD2_D[3]/PB[3]/GPIF_DATA[3] (io), J10 SD2_D[0]/PB[0]/GPIF_DATA[0] (io), K5 SD2_WP/PC[2] (io), K6 SD2_CLK/PA[6] (io), K7 SD2_D[7]/PB[7]/GPIF_DATA[7] (io), K8 SD2_D[6]/PB[6]/GPIF_DATA[6] (io), K9 SD2_D[4]/PB[4]/GPIF_DATA[4] (io), K10 SD2_D[1]/PB[1]/GPIF_DATA[1] (io)
part B pins: A1 ADV#/ALE (in), A2 WE# (in), A3 INT#/SINT# (hiz), A4 DRQ# (hiz) "DMA Request", B1 DQ[1]/AD[1]/IO[1]/SDO (io), B2 DQ[0]/AD[0]/IO[0]/SDI (io), B3 OE#/RE# (in), B4 DACK# (in) "DMA Acknowledgement", C1 DQ[4]/AD[4]/IO[4] (io), C2 DQ[3]/AD[3]/IO[3] (io), C3 DQ[2]/AD[2]/IO[2] (io), D1 DQ[7]/AD[7]/IO[7] (io), D2 DQ[6]/AD[6]/IO[6] (io), D3 DQ[5]/AD[5]/IO[5] (io), E1 DQ[10]/AD[10]/IO[10] (io), E2 DQ[9]/AD[9]/IO[9] (io), E3 DQ[8]/AD[8]/IO[8] (io), F1 DQ[13]/AD[13]/IO[13] (io), F2 DQ[12]/AD[12]/IO[12] (io), F3 DQ[11]/AD[11]/IO[11] (io), G1 CE#/SS# (in), G2 DQ[15]/AD[15]/IO[15] (io), G3 DQ[14]/AD[14]/IO[14] (io), H1 A[5]/SCL (io), H2 A[6]/SDA (io), H3 A[7] (in) "Addr. Bus 7", J1 A[3] (in) "Addr. Bus 3", J2 CLK/SCK (in), J3 A[4]/WP# (in), K1 A[0]/CLE (in), K2 A[1]/RB# (io), K3 A[2] (in) "Addr. Bus 2"
part C pins: A5 D+ (io) "USB D+", A6 D- (io) "USB D-", A7 SWD+ (io) "USB Switch DP", A8 XTALIN (in) "Crystal / Clock IN", B8 XTALOUT "Crystal Out", B10 RESETOUT/GPIF_RDY[1] (hiz), C4 XTALSLC[0] (in) "Clock Select 0", C5 XTALSLC[1] (in) "Clock Select 1", C6 SWD- (io) "USB Switch DM", C7 WAKEUP (in) "Wake Up Signal", C8 TEST[1] (in) "Test Cfg 1", C10 RESET# (in) "RESET", D7 TEST[0] (in) "Test Cfg 0", E8 TEST[2] (in) "Test Cfg 2", H6 GPIF_CTL[0] (hiz), J4 GPIF_RDY[0] (hiz), K4 GPIF_CTL[1] (hiz)
part D pins: A9 AVSSQ (power) "Analog GND", A10 VDD33 (power) "Independent 3.3 V", B5 UVDDQ (power) "USB VDD", B6 UVSSQ (power) "USB GND", B7 XVDDQ (power) "Crystal VDD", B9 AVDDQ (power) "Analog VDD", D4 PVDDQ (power) "Processor I/F VDD", D5 VDD (power) "Core VDD", D6 GVDDQ (power) "Misc I/O VDD", E4 VGND (power) "Core GND", E5 VGND (power) "Core GND", E6 VGND (power) "Core GND", E7 VGND (power) "Core GND", F4 VGND (power) "Core GND", F5 VGND (power) "Core GND", F6 VGND (power) "Core GND", F7 VDD (power) "Core VDD", G4 VDD (power) "Core VDD", G5 VDD (power) "Core VDD", G6 VDD (power) "Core VDD", G7 VDD (power) "Core VDD", H4 PVDDQ (power) "Processor I/F VDD", H5 SNVDDQ (power) "GPIF VDD", H7 SSVDDQ (power) "SDIO VDD"

## CYWB0226ABS-BVXIT
designator U?
West Bridge(R) Astoria(TM) USB and Mass Storage Peripheral Controller, -40 to 85 degC, 100-Pin VFBGA (BVX100), Tape and Reel; Manufacturer: Cypress; PartNumber: CYWB0226ABS-BVXIT; Max. Operating Voltage (V): 3.3; Min. Operating Voltage (V): 1.8; Populated: Yes; DatasheetVersion: Rev. *N; PackageVersion: Rev. *D; PackageReference: BVX100; PackageDescription: 100-Ball Fine-Pitch Ball Grid Array, Body 6 x 6 mm, Pitch 0.50 mm; Supplier 1: Digi-Key; Supplier Part Number 1: CYWB0226ABS-BVXIT-ND; Max. Operating Temp. (degreesC): 85; Min. Operating Temp. (degreesC): -40; Packing: Tape and Reel; RoHS: Pb-Free; Mounting Technology: Surface Mount; ComponentLink1Description: Manufacturer URL; ComponentLink1URL: http://www.cypress.com/; ComponentLink2Description: Datasheet; ComponentLink2URL: http://www.cypress.com/?docID=41721; ComponentLink3Description: Package Specification; ComponentLink3URL: http://www.cypress.com/?docID=46966
footprint CYP-BVX100 (BGA, 100-Balls, Body 6x6mm, Pitch 0.5mm)
part A pins: C9 SD2_CD/PC[5] (io), D8 SD_CD/PC[4] (io), D9 SD_D[1]/PD[1]/GPIF_DATA[9] (io), D10 SD_D[0]/PD[0]/GPIF_DATA[8] (io), E9 SD_D[3]/PD[3]/GPIF_DATA[11] (io), E10 SD_D[2]/PD[2]/GPIF_DATA[10] (io), F8 SD_CLK/PC[7] (io), F9 SD_D[5]/PD[5]/GPIF_DATA[13] (io), F10 SD_D[4]/PD[4]/GPIF_DATA[12] (io), G8 SD_CMD/PC[3] (io), G9 SD_D[7]/PD[7]/GPIF_DATA[15] (io), G10 SD_D[6]/PD[6]/GPIF_DATA[14] (io), H8 SD_POW/PC[6] (io), H9 SD2_D[2]/PB[2]/GPIF_DATA[2] (io), H10 SD_WP/PC[5] (io) "SD Write Protect", J5 SD2_POW/PC[0] (io), J6 SD2_CMD/PA[7] (io), J7 PA[5] (io), J8 SD2_D[5]/PB[5]/GPIF_DATA[5] (io), J9 SD2_D[3]/PB[3]/GPIF_DATA[3] (io), J10 SD2_D[0]/PB[0]/GPIF_DATA[0] (io), K5 SD2_WP/PC[2] (io), K6 SD2_CLK/PA[6] (io), K7 SD2_D[7]/PB[7]/GPIF_DATA[7] (io), K8 SD2_D[6]/PB[6]/GPIF_DATA[6] (io), K9 SD2_D[4]/PB[4]/GPIF_DATA[4] (io), K10 SD2_D[1]/PB[1]/GPIF_DATA[1] (io)
part B pins: A1 ADV#/ALE (in), A2 WE# (in), A3 INT#/SINT# (hiz), A4 DRQ# (hiz) "DMA Request", B1 DQ[1]/AD[1]/IO[1]/SDO (io), B2 DQ[0]/AD[0]/IO[0]/SDI (io), B3 OE#/RE# (in), B4 DACK# (in) "DMA Acknowledgement", C1 DQ[4]/AD[4]/IO[4] (io), C2 DQ[3]/AD[3]/IO[3] (io), C3 DQ[2]/AD[2]/IO[2] (io), D1 DQ[7]/AD[7]/IO[7] (io), D2 DQ[6]/AD[6]/IO[6] (io), D3 DQ[5]/AD[5]/IO[5] (io), E1 DQ[10]/AD[10]/IO[10] (io), E2 DQ[9]/AD[9]/IO[9] (io), E3 DQ[8]/AD[8]/IO[8] (io), F1 DQ[13]/AD[13]/IO[13] (io), F2 DQ[12]/AD[12]/IO[12] (io), F3 DQ[11]/AD[11]/IO[11] (io), G1 CE#/SS# (in), G2 DQ[15]/AD[15]/IO[15] (io), G3 DQ[14]/AD[14]/IO[14] (io), H1 A[5]/SCL (io), H2 A[6]/SDA (io), H3 A[7] (in) "Addr. Bus 7", J1 A[3] (in) "Addr. Bus 3", J2 CLK/SCK (in), J3 A[4]/WP# (in), K1 A[0]/CLE (in), K2 A[1]/RB# (io), K3 A[2] (in) "Addr. Bus 2"
part C pins: A5 D+ (io) "USB D+", A6 D- (io) "USB D-", A7 SWD+ (io) "USB Switch DP", A8 XTALIN (in) "Crystal / Clock IN", B8 XTALOUT "Crystal Out", B10 RESETOUT/GPIF_RDY[1] (hiz), C4 XTALSLC[0] (in) "Clock Select 0", C5 XTALSLC[1] (in) "Clock Select 1", C6 SWD- (io) "USB Switch DM", C7 WAKEUP (in) "Wake Up Signal", C8 TEST[1] (in) "Test Cfg 1", C10 RESET# (in) "RESET", D7 TEST[0] (in) "Test Cfg 0", E8 TEST[2] (in) "Test Cfg 2", H6 GPIF_CTL[0] (hiz), J4 GPIF_RDY[0] (hiz), K4 GPIF_CTL[1] (hiz)
part D pins: A9 AVSSQ (power) "Analog GND", A10 VDD33 (power) "Independent 3.3 V", B5 UVDDQ (power) "USB VDD", B6 UVSSQ (power) "USB GND", B7 XVDDQ (power) "Crystal VDD", B9 AVDDQ (power) "Analog VDD", D4 PVDDQ (power) "Processor I/F VDD", D5 VDD (power) "Core VDD", D6 GVDDQ (power) "Misc I/O VDD", E4 VGND (power) "Core GND", E5 VGND (power) "Core GND", E6 VGND (power) "Core GND", E7 VGND (power) "Core GND", F4 VGND (power) "Core GND", F5 VGND (power) "Core GND", F6 VGND (power) "Core GND", F7 VDD (power) "Core VDD", G4 VDD (power) "Core VDD", G5 VDD (power) "Core VDD", G6 VDD (power) "Core VDD", G7 VDD (power) "Core VDD", H4 PVDDQ (power) "Processor I/F VDD", H5 SNVDDQ (power) "GPIF VDD", H7 SSVDDQ (power) "SDIO VDD"

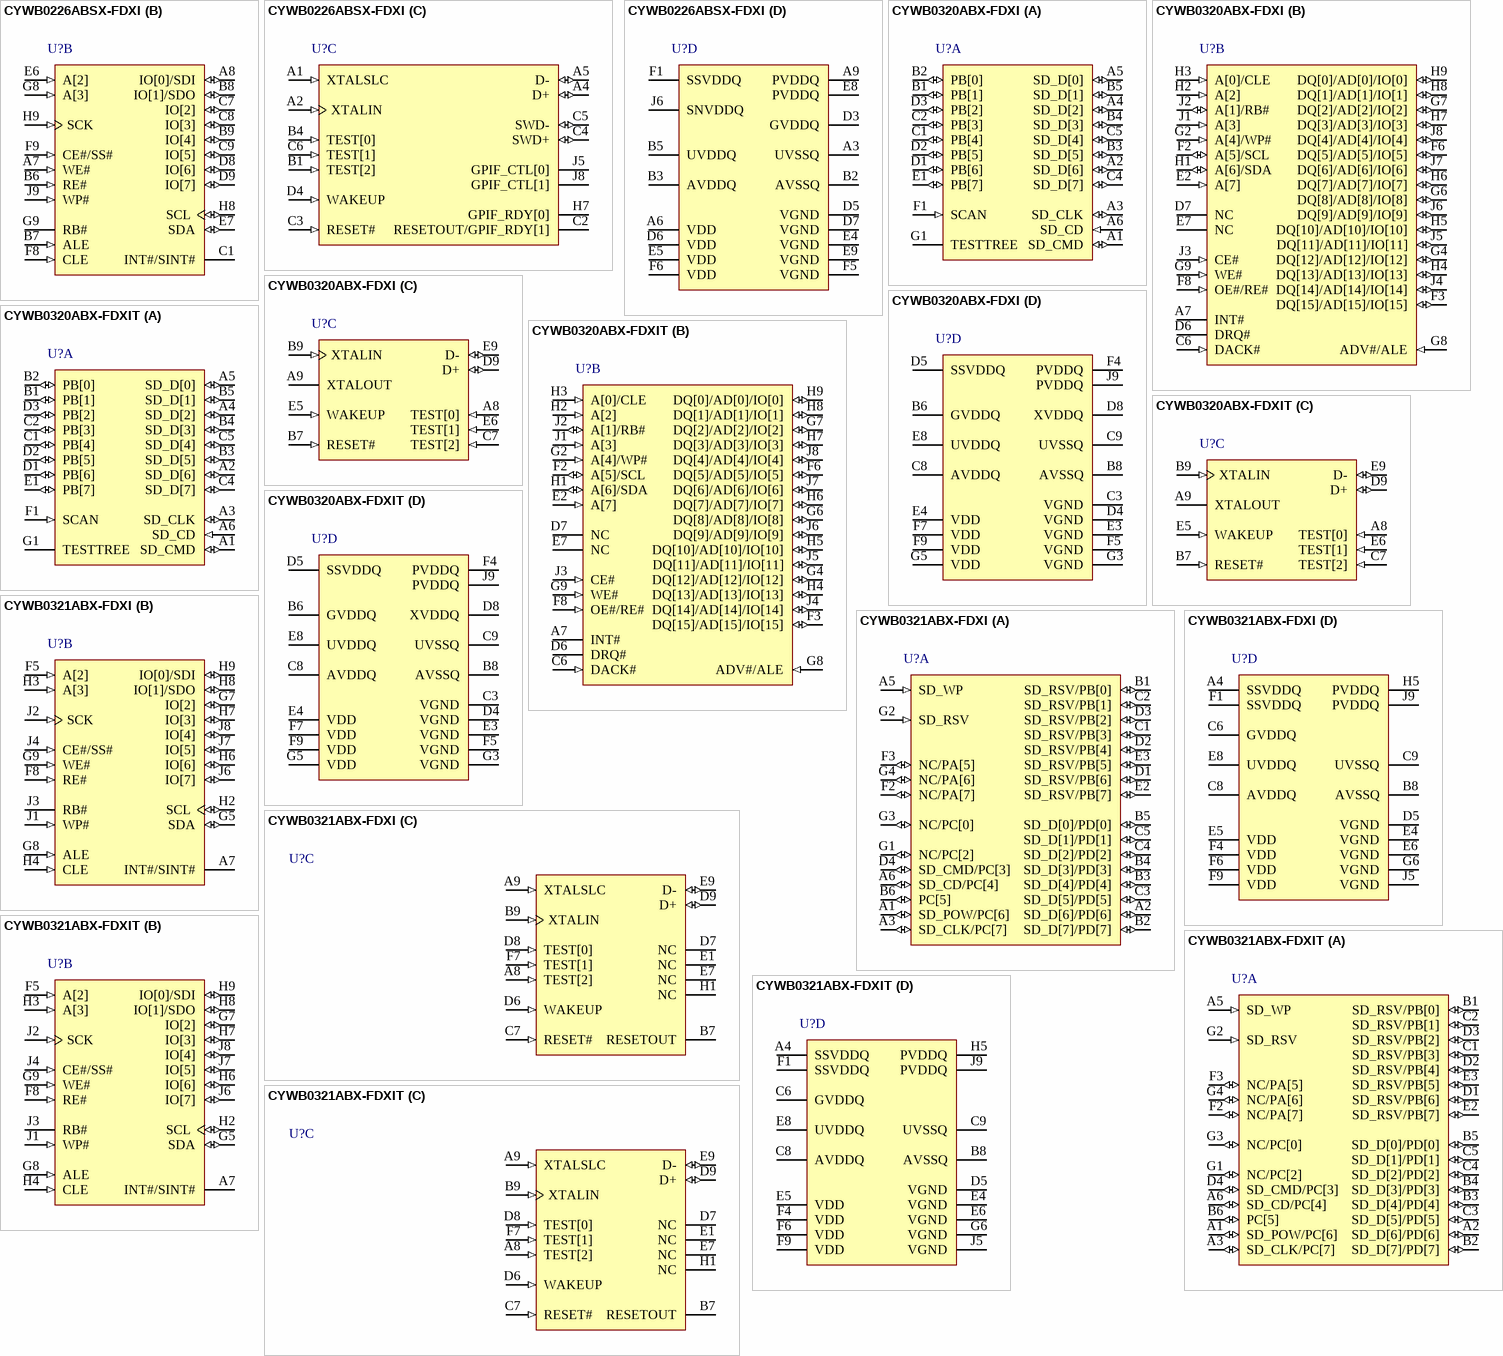
[diagram p21: symbols CYWB0226ABSX-FDXI to CYWB0321ABX-FDXIT]

## CYWB0226ABSX-FDXI
designator U?
West Bridge(R) Astoria(TM) USB and Mass Storage Peripheral Controller, -40 to 85 degC, 81-Pin WLCSP (FNX81), Tape and Reel; Manufacturer: Cypress; PartNumber: CYWB0226ABSX-FDXI; Max. Operating Voltage (V): 3.3; Min. Operating Voltage (V): 1.8; Populated: Yes; DatasheetVersion: Rev. *N; PackageVersion: Rev. *C; PackageReference: FNX81; PackageDescription: 81-Ball WLCSP, Body 3.91 x 3.907 mm, Pitch 0.4 mm; Max. Operating Temp. (degreesC): 85; Min. Operating Temp. (degreesC): -40; Packing: Tape and Reel; RoHS: Pb-Free; Mounting Technology: Surface Mount; Code_JEDEC: Publication 95; ComponentLink1Description: Manufacturer URL; ComponentLink1URL: http://www.cypress.com/; ComponentLink2Description: Datasheet; ComponentLink2URL: http://www.cypress.com/?docID=41721; ComponentLink3Description: Package Specification; ComponentLink3URL: http://www.cypress.com/?docID=45114
footprint CYP-FNX81 (BGA, 81-Balls, Body 3.91x3.91mm, Pitch 0.4mm)
part A pins: D1 SD_CD/PC[4] (io), D2 SD2_CD/PC[5] (io), E1 SD_WP/PC[5] (io), E2 SD_D[0]/PD[0]/GPIF_DATA [8] (io), E3 SD_D[1]/PD[1]/GPIF_DATA [9] (io), F2 SD_D[3]/PD[3]/GPIF_DATA [11] (io), F3 SD_D[2]/PD[2]/GPIF_DATA [10] (io), F4 SD_CMD/PC[3] (io), F7 SD2_CLK/PA[6] (io), G1 SD_CLK/PC[7] (io), G2 SD_D[4]/PD[4]/GPIF_DATA [12] (io), G3 SD_D[5]/PD[5]/GPIF_DATA [13] (io), G4 SD2_D[2]/PB[2]/GPIF_DATA [2] (io), G5 SD2_D[5]/PB[5]/GPIF_DATA [5] (io), G6 PA[5] (io), G7 SD2_POW/PC[0] (io), H1 SD_D[6]/PD[6]/GPIF_DATA [14] (io), H2 SD_D[7]/PD[7]/GPIF_DATA [15] (io), H3 SD2_D[1]/PB[1]/GPIF_DATA [1] (io), H4 SD2_D[4]/PB[4]/GPIF_DATA [4] (io), H5 SD2_D[7]/PB[7]/GPIF_DATA [7] (io), H6 SD2_CMD/PA[7] (io), J1 SD_POW/PC[6] (io), J2 SD2_D[0]/PB[0]/GPIF_DATA [0] (io), J3 SD2_D[3]/PB[3]/GPIF_DATA [3] (io), J4 SD2_D[6]/PB[6]/GPIF_DATA [6] (io), J7 SD2_WP/PC[2] (io)
part B pins: A7 WE# (in), A8 IO[0]/SDI (io), B6 RE# (in) "Output Enable", B7 ALE (in) "Address Valid", B8 IO[1]/SDO (io), B9 IO[4] (io), C1 INT#/SINT# (hiz), C7 IO[2] (io), C8 IO[3] (io), C9 IO[5] (io), D8 IO[6] (io), D9 IO[7] (io), E6 A[2] (in), E7 SDA (io) "I2C data", F8 CLE (in) "PNAND CLE", F9 CE#/SS# (in), G8 A[3] (in), G9 RB# (hiz) "PNAND R/B#", H8 SCL (io) "I2C clock", H9 SCK (in) "Clock", J9 WP# (in) "PNAND WP"
part C pins: A1 XTALSLC (in) "Clock Select", A2 XTALIN (in) "Crystal / Clock IN", A4 D+ (io) "USB D+", A5 D- (io) "USB D-", B1 TEST[2] (in) "Test Cfg 2", B4 TEST[0] (in) "Test Cfg 0", C2 RESETOUT/GPIF_RDY[1] (hiz), C3 RESET# (in) "RESET", C4 SWD+ (io), C5 SWD- (io), C6 TEST[1] (in) "Test Cfg 1", D4 WAKEUP (in) "Wake Up Signal", H7 GPIF_RDY[0] (hiz), J5 GPIF_CTL[0] (hiz), J8 GPIF_CTL[1] (hiz)
part D pins: A3 UVSSQ (power) "USB GND", A6 VDD (power) "Core VDD", A9 PVDDQ (power) "Processor I/F VDD", B2 AVSSQ (power) "Analog GND", B3 AVDDQ (power) "Analog VDD", B5 UVDDQ (power) "USB VDD", D3 GVDDQ (power) "Misc I/O VDD", D5 VGND (power) "Core GND", D6 VDD (power) "Core VDD", D7 VGND (power) "Core GND", E4 VGND (power) "Core GND", E5 VDD (power) "Core VDD", E8 PVDDQ (power) "Processor I/F VDD", E9 VGND (power) "Core GND", F1 SSVDDQ (power) "SDIO VDD", F5 VGND (power) "Core GND", F6 VDD (power) "Core VDD", J6 SNVDDQ (power) "GPIF VDD"

## CYWB0320ABX-FDXI
designator U?
West Bridge(R) Arroyo USB and Mass Storage Peripheral Controller, -40 to 85 degC, 81-Pin WLCSP (FNX81), Tube; Manufacturer: Cypress; PartNumber: CYWB0320ABX-FDXI; Max. Operating Voltage (V): 3.3; Min. Operating Voltage (V): 1.8; Populated: Yes; DatasheetVersion: Rev. *G; PackageVersion: Rev. *C; PackageReference: FNX81; PackageDescription: 81-Ball WLCSP, Body 3.91 x 3.907 mm, Pitch 0.4 mm; Max. Operating Temp. (degreesC): 85; Min. Operating Temp. (degreesC): -40; Packing: Tube; RoHS: Pb-Free; Mounting Technology: Surface Mount; Code_JEDEC: Publication 95; ComponentLink1Description: Manufacturer URL; ComponentLink1URL: http://www.cypress.com/; ComponentLink2Description: Datasheet; ComponentLink2URL: http://www.cypress.com/?docID=45114; ComponentLink3Description: Package Specification; ComponentLink3URL: http://www.cypress.com/?docID=45114
footprint CYP-FNX81 (BGA, 81-Balls, Body 3.91x3.91mm, Pitch 0.4mm)
part A pins: A1 SD_CMD (io), A2 SD_D[6] (io), A3 SD_CLK (io) "SD Clock or GPIO", A4 SD_D[2] (io), A5 SD_D[0] (io), A6 SD_CD (in), B1 PB[1] (io), B2 PB[0] (io), B3 SD_D[5] (io), B4 SD_D[3] (io), B5 SD_D[1] (io), C1 PB[4] (io), C2 PB[3] (io), C4 SD_D[7] (io), C5 SD_D[4] (io), D1 PB[6] (io), D2 PB[5] (io), D3 PB[2] (io), E1 PB[7] (io), F1 SCAN (in), G1 TESTTREE (hiz)
part B pins: A7 INT# (hiz), C6 DACK# (in), D6 DRQ# (hiz), D7 NC, E2 A[7] (in), E7 NC, F2 A[5]/SCL (io), F3 DQ[15]/AD[15]/IO[15] (io), F6 DQ[5]/AD[5]/IO[5] (io), F8 OE#/RE# (in), G2 A[4]/WP# (in), G4 DQ[12]/AD[12]/IO[12] (io), G6 DQ[8]/AD[8]/IO[8] (io), G7 DQ[2]/AD[2]/IO[2] (io), G8 ADV#/ALE (in), G9 WE# (in), H1 A[6]/SDA (io), H2 A[2] (in), H3 A[0]/CLE (in), H4 DQ[13]/AD[13]/IO[13] (io), H5 DQ[10]/AD[10]/IO[10] (io), H6 DQ[7]/AD[7]/IO[7] (io), H7 DQ[3]/AD[3]/IO[3] (io), H8 DQ[1]/AD[1]/IO[1] (io), H9 DQ[0]/AD[0]/IO[0] (io), J1 A[3] (in), J2 A[1]/RB# (io), J3 CE# (in), J4 DQ[14]/AD[14]/IO[14] (io), J5 DQ[11]/AD[11]/IO[11] (io), J6 DQ[9]/AD[9]/IO[9] (io), J7 DQ[6]/AD[6]/IO[6] (io), J8 DQ[4]/AD[4]/IO[4] (io)
part C pins: A8 TEST[0] (in), A9 XTALOUT, B7 RESET# (in), B9 XTALIN (in), C7 TEST[2] (in), D9 D+ (io), E5 WAKEUP (in), E6 TEST[1] (in), E9 D- (io)
part D pins: B6 GVDDQ (power), B8 AVSSQ (power), C3 VGND (power), C8 AVDDQ (power), C9 UVSSQ (power), D4 VGND (power), D5 SSVDDQ (power), D8 XVDDQ (power), E3 VGND (power), E4 VDD (power), E8 UVDDQ (power), F4 PVDDQ (power), F5 VGND (power), F7 VDD (power), F9 VDD (power), G3 VGND (power), G5 VDD (power), J9 PVDDQ (power)

## CYWB0320ABX-FDXIT
designator U?
West Bridge(R) Arroyo USB and Mass Storage Peripheral Controller, -40 to 85 degC, 81-Pin WLCSP (FNX81), Tape and Reel; Manufacturer: Cypress; PartNumber: CYWB0320ABX-FDXIT; Max. Operating Voltage (V): 3.3; Min. Operating Voltage (V): 1.8; Populated: Yes; DatasheetVersion: Rev. *C; PackageVersion: Rev. *C; PackageReference: FNX81; PackageDescription: 81-Ball WLCSP, Body 3.91 x 3.907 mm, Pitch 0.4 mm; Supplier 1: Digi-Key; Supplier Part Number 1: CYWB0320ABX-FDXIT-ND; Max. Operating Temp. (degreesC): 85; Min. Operating Temp. (degreesC): -40; Packing: Tape and Reel; RoHS: Pb-Free; Mounting Technology: Surface Mount; Code_JEDEC: Publication 95; ComponentLink1Description: Manufacturer URL; ComponentLink1URL: http://www.cypress.com/; ComponentLink2Description: Datasheet; ComponentLink2URL: http://www.cypress.com/?docID=45114; ComponentLink3Description: Package Specification; ComponentLink3URL: http://www.cypress.com/?docID=45114
footprint CYP-FNX81 (BGA, 81-Balls, Body 3.91x3.91mm, Pitch 0.4mm)
part A pins: A1 SD_CMD (io), A2 SD_D[6] (io), A3 SD_CLK (io) "SD Clock or GPIO", A4 SD_D[2] (io), A5 SD_D[0] (io), A6 SD_CD (in), B1 PB[1] (io), B2 PB[0] (io), B3 SD_D[5] (io), B4 SD_D[3] (io), B5 SD_D[1] (io), C1 PB[4] (io), C2 PB[3] (io), C4 SD_D[7] (io), C5 SD_D[4] (io), D1 PB[6] (io), D2 PB[5] (io), D3 PB[2] (io), E1 PB[7] (io), F1 SCAN (in), G1 TESTTREE (hiz)
part B pins: A7 INT# (hiz), C6 DACK# (in), D6 DRQ# (hiz), D7 NC, E2 A[7] (in), E7 NC, F2 A[5]/SCL (io), F3 DQ[15]/AD[15]/IO[15] (io), F6 DQ[5]/AD[5]/IO[5] (io), F8 OE#/RE# (in), G2 A[4]/WP# (in), G4 DQ[12]/AD[12]/IO[12] (io), G6 DQ[8]/AD[8]/IO[8] (io), G7 DQ[2]/AD[2]/IO[2] (io), G8 ADV#/ALE (in), G9 WE# (in), H1 A[6]/SDA (io), H2 A[2] (in), H3 A[0]/CLE (in), H4 DQ[13]/AD[13]/IO[13] (io), H5 DQ[10]/AD[10]/IO[10] (io), H6 DQ[7]/AD[7]/IO[7] (io), H7 DQ[3]/AD[3]/IO[3] (io), H8 DQ[1]/AD[1]/IO[1] (io), H9 DQ[0]/AD[0]/IO[0] (io), J1 A[3] (in), J2 A[1]/RB# (io), J3 CE# (in), J4 DQ[14]/AD[14]/IO[14] (io), J5 DQ[11]/AD[11]/IO[11] (io), J6 DQ[9]/AD[9]/IO[9] (io), J7 DQ[6]/AD[6]/IO[6] (io), J8 DQ[4]/AD[4]/IO[4] (io)
part C pins: A8 TEST[0] (in), A9 XTALOUT, B7 RESET# (in), B9 XTALIN (in), C7 TEST[2] (in), D9 D+ (io), E5 WAKEUP (in), E6 TEST[1] (in), E9 D- (io)
part D pins: B6 GVDDQ (power), B8 AVSSQ (power), C3 VGND (power), C8 AVDDQ (power), C9 UVSSQ (power), D4 VGND (power), D5 SSVDDQ (power), D8 XVDDQ (power), E3 VGND (power), E4 VDD (power), E8 UVDDQ (power), F4 PVDDQ (power), F5 VGND (power), F7 VDD (power), F9 VDD (power), G3 VGND (power), G5 VDD (power), J9 PVDDQ (power)

## CYWB0321ABX-FDXI
designator U?
West Bridge(R) Arroyo USB and Mass Storage Peripheral Controller, -40 to 85 degC, 81-Pin WLCSP (FNX81), Tube; Manufacturer: Cypress; PartNumber: CYWB0321ABX-FDXI; Max. Operating Voltage (V): 3.3; Min. Operating Voltage (V): 1.8; Populated: Yes; DatasheetVersion: Rev. *C; PackageVersion: Rev. *C; PackageReference: FNX81; PackageDescription: 81-Ball WLCSP, Body 3.91 x 3.907 mm, Pitch 0.4 mm; Max. Operating Temp. (degreesC): 85; Min. Operating Temp. (degreesC): -40; Packing: Tube; RoHS: Pb-Free; Mounting Technology: Surface Mount; Code_JEDEC: Publication 95; ComponentLink1Description: Manufacturer URL; ComponentLink1URL: http://www.cypress.com/; ComponentLink2Description: Datasheet; ComponentLink2URL: http://www.cypress.com/?docID=45114; ComponentLink3Description: Package Specification; ComponentLink3URL: http://www.cypress.com/?docID=45114
footprint CYP-FNX81 (BGA, 81-Balls, Body 3.91x3.91mm, Pitch 0.4mm)
part A pins: A1 SD_POW/PC[6] (io), A2 SD_D[6]/PD[6] (io), A3 SD_CLK/PC[7] (io), A5 SD_WP (in), A6 SD_CD/PC[4] (io), B1 SD_RSV/PB[0] (io), B2 SD_D[7]/PD[7] (io), B3 SD_D[4]/PD[4] (io), B4 SD_D[3]/PD[3] (io), B5 SD_D[0]/PD[0] (io), B6 PC[5] (io), C1 SD_RSV/PB[3] (io), C2 SD_RSV/PB[1] (io), C3 SD_D[5]/PD[5] (io), C4 SD_D[2]/PD[2] (io), C5 SD_D[1]/PD[1] (io), D1 SD_RSV/PB[6] (io), D2 SD_RSV/PB[4] (io), D3 SD_RSV/PB[2] (io), D4 SD_CMD/PC[3] (io), E2 SD_RSV/PB[7] (io), E3 SD_RSV/PB[5] (io), F2 NC/PA[7] (io), F3 NC/PA[5] (io), G1 NC/PC[2] (io), G2 SD_RSV (in), G3 NC/PC[0] (io), G4 NC/PA[6] (io)
part B pins: A7 INT#/SINT# (hiz), F5 A[2] (in), F8 RE# (in), G5 SDA (io), G7 IO[2] (io), G8 ALE (in), G9 WE# (in), H2 SCL (io) "I2C clock", H3 A[3] (in), H4 CLE (in), H6 IO[6] (io), H7 IO[3] (io), H8 IO[1]/SDO (io), H9 IO[0]/SDI (io), J1 WP# (in), J2 SCK (in), J3 RB# (hiz), J4 CE#/SS# (in), J6 IO[7] (io), J7 IO[5] (io), J8 IO[4] (io)
part C pins: A8 TEST[2] (in), A9 XTALSLC (in), B7 RESETOUT (hiz), B9 XTALIN (in), C7 RESET# (in), D6 WAKEUP (in), D7 NC, D8 TEST[0] (in), D9 D+ (io), E1 NC, E7 NC, E9 D- (io), F7 TEST[1] (in), H1 NC
part D pins: A4 SSVDDQ (power), B8 AVSSQ (power), C6 GVDDQ (power), C8 AVDDQ (power), C9 UVSSQ (power), D5 VGND (power), E4 VGND (power), E5 VDD (power), E6 VGND (power), E8 UVDDQ (power), F1 SSVDDQ (power), F4 VDD (power), F6 VDD (power), F9 VDD (power), G6 VGND (power), H5 PVDDQ (power), J5 VGND (power), J9 PVDDQ (power)

## CYWB0321ABX-FDXIT
designator U?
West Bridge(R) Arroyo USB and Mass Storage Peripheral Controller, -40 to 85 degC, 81-Pin WLCSP (FNX81), Tape and Reel; Manufacturer: Cypress; PartNumber: CYWB0321ABX-FDXIT; Max. Operating Voltage (V): 3.3; Min. Operating Voltage (V): 1.8; Populated: Yes; DatasheetVersion: Rev. *C; PackageVersion: Rev. *C; PackageReference: FNX81; PackageDescription: 81-Ball WLCSP, Body 3.91 x 3.907 mm, Pitch 0.4 mm; Max. Operating Temp. (degreesC): 85; Min. Operating Temp. (degreesC): -40; Packing: Tape and Reel; RoHS: Pb-Free; Mounting Technology: Surface Mount; Code_JEDEC: Publication 95; ComponentLink1Description: Manufacturer URL; ComponentLink1URL: http://www.cypress.com/; ComponentLink2Description: Datasheet; ComponentLink2URL: http://www.cypress.com/?docID=45114; ComponentLink3Description: Package Specification; ComponentLink3URL: http://www.cypress.com/?docID=45114
footprint CYP-FNX81 (BGA, 81-Balls, Body 3.91x3.91mm, Pitch 0.4mm)
part A pins: A1 SD_POW/PC[6] (io), A2 SD_D[6]/PD[6] (io), A3 SD_CLK/PC[7] (io), A5 SD_WP (in), A6 SD_CD/PC[4] (io), B1 SD_RSV/PB[0] (io), B2 SD_D[7]/PD[7] (io), B3 SD_D[4]/PD[4] (io), B4 SD_D[3]/PD[3] (io), B5 SD_D[0]/PD[0] (io), B6 PC[5] (io), C1 SD_RSV/PB[3] (io), C2 SD_RSV/PB[1] (io), C3 SD_D[5]/PD[5] (io), C4 SD_D[2]/PD[2] (io), C5 SD_D[1]/PD[1] (io), D1 SD_RSV/PB[6] (io), D2 SD_RSV/PB[4] (io), D3 SD_RSV/PB[2] (io), D4 SD_CMD/PC[3] (io), E2 SD_RSV/PB[7] (io), E3 SD_RSV/PB[5] (io), F2 NC/PA[7] (io), F3 NC/PA[5] (io), G1 NC/PC[2] (io), G2 SD_RSV (in), G3 NC/PC[0] (io), G4 NC/PA[6] (io)
part B pins: A7 INT#/SINT# (hiz), F5 A[2] (in), F8 RE# (in), G5 SDA (io), G7 IO[2] (io), G8 ALE (in), G9 WE# (in), H2 SCL (io) "I2C clock", H3 A[3] (in), H4 CLE (in), H6 IO[6] (io), H7 IO[3] (io), H8 IO[1]/SDO (io), H9 IO[0]/SDI (io), J1 WP# (in), J2 SCK (in), J3 RB# (hiz), J4 CE#/SS# (in), J6 IO[7] (io), J7 IO[5] (io), J8 IO[4] (io)
part C pins: A8 TEST[2] (in), A9 XTALSLC (in), B7 RESETOUT (hiz), B9 XTALIN (in), C7 RESET# (in), D6 WAKEUP (in), D7 NC, D8 TEST[0] (in), D9 D+ (io), E1 NC, E7 NC, E9 D- (io), F7 TEST[1] (in), H1 NC
part D pins: A4 SSVDDQ (power), B8 AVSSQ (power), C6 GVDDQ (power), C8 AVDDQ (power), C9 UVSSQ (power), D5 VGND (power), E4 VGND (power), E5 VDD (power), E6 VGND (power), E8 UVDDQ (power), F1 SSVDDQ (power), F4 VDD (power), F6 VDD (power), F9 VDD (power), G6 VGND (power), H5 PVDDQ (power), J5 VGND (power), J9 PVDDQ (power)

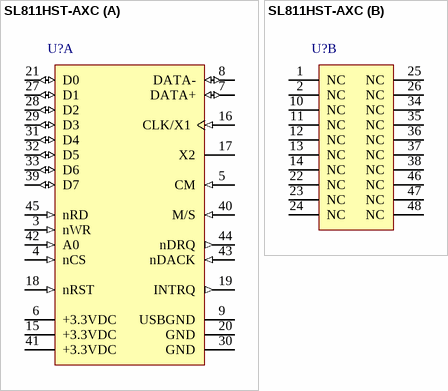
[diagram p22: symbol SL811HST-AXC]

## SL811HST-AXC
designator U?
Embedded USB Host / Slave Controller, 0.25 KB, 8 I/Os, 3 to 3.45 V, 0 to 70 degC, 100-Pin TQFP (AX48), Tray; Manufacturer: Cypress; PartNumber: SL811HST-AXC; CPU Core: CY16; Max. Operating Voltage (V): 3.45; Memory Architecture: ROM/RAM; Memory Size (KB): 0.25; Min. Operating Voltage (V): 3; No. of I/Os: 8; Populated: Yes; DatasheetVersion: Rev. *H; PackageVersion: Rev. **, 12/2000; PackageReference: AX48; PackageDescription: 48-Pin Thin Quad Flat Pack, Body 7 x 7 mm, Pitch 0.5 mm; Supplier 1: Digi-Key; Supplier Part Number 1: 428-1721-ND; Max. Operating Temp. (degreesC): 70; Min. Operating Temp. (degreesC): 0; Packing: Tray; RoHS: Pb-Free; Mounting Technology: Surface Mount; ComponentLink1Description: Manufacturer URL; ComponentLink1URL: http://www.cypress.com/; ComponentLink2Description: Datasheet; ComponentLink2URL: http://www.cypress.com/?docID=48690; ComponentLink3Description: Package Specification; ComponentLink3URL: http://www.cypress.com/?docID=1350
footprint CYP-AX48_N (TQFP, 48-Leads, Body 7x7mm, Pitch 0.5mm, IPC Medium Density)
footprint CYP-AX48_L (TQFP, 48-Leads, Body 7x7mm, Pitch 0.5mm, IPC High Density)
footprint CYP-AX48_M (TQFP, 48-Leads, Body 7x7mm, Pitch 0.5mm, IPC High Density, IPC Low Density)
part A pins: 3 nWR (in) "Write Strobe Input. An active LOW input used with nCS to write to registers/data memory.", 4 nCS (in) "Active LOW 48-Pin TQFP Chip select. Used with nRD and nWr when accessing the 48-Pin TQFP.", 5 CM (in) "Clock Multiply. Select 12 MHz/48 MHz Clock Source.", 6 +3.3VDC (power) "Power for USB Transceivers. VDD1 may be connected to VDD.", 7 DATA+ (io) "USB Differential Data Signal HIGH Side.", 8 DATA- (io) "USB Differential Data Signal LOW Side.", 9 USBGND (power) "Ground Connection for USB.", 15 +3.3VDC (power) "Device VDD Power.", 16 CLK/X1 (in) "Clock or External Crystal X1 connection. The X1/X2 Clock requires external 12 or 48 MHz matching crystal or clock source.", 17 X2 "External Crystal X2 connection.", 18 nRST (in) "Device active low reset input.", 19 INTRQ (out) "Active HIGH Interrupt Request output to external controller.", 20 GND (power) "Device Ground.", 21 D0 (io) "Data 0. Microprocessor Data/Address Bus.", 27 D1 (io) "Data 1. Microprocessor Data/Address Bus.", 28 D2 (io) "Data 2. Microprocessor Data/Address Bus.", 29 D3 (io) "Data 3. Microprocessor Data/Address Bus.", 30 GND (power) "Device Ground.", 31 D4 (io) "Data 4. Microprocessor Data/Address Bus.", 32 D5 (io) "Data 5. Microprocessor Data/Address Bus.", 33 D6 (io) "Data 6. Microprocessor Data/Address Bus.", 39 D7 (io) "Data 7. Microprocessor Data/Address Bus.", 40 M/S (in) "Master/Slave Mode Select. ??selects Slave. ??= Master.", 41 +3.3VDC (power) "Device VDD Power.", 42 A0 (in) "A0 = ?? Selects address pointer. Register A0 = ?? Selects data buffer or register.", 43 nDACK (in) "DMA Acknowledge. An active LOW input used to interface to an external DMA controller. DMA is enabled only in slave mode. In host mode, the pin should be tied HIGH (logic ??.", 44 nDRQ (out) "DMA Request. An active LOW output used with an external DMA controller. nDRQ and nDACK form the handshake for DMA data transfers. In host mode, leave the pin unconnected.", 45 nRD (in) "Read Strobe Input. An active LOW input used with nCS to read registers/data memory."
part B pins: 1 NC "No connection.", 2 NC "No connection.", 10 NC "No connection.", 11 NC "No connection.", 12 NC "No connection.", 13 NC "No connection.", 14 NC "No connection.", 22 NC "No connection.", 23 NC "No connection.", 24 NC "No connection.", 25 NC "No connection.", 26 NC "No connection.", 34 NC "No connection.", 35 NC "No connection.", 36 NC "No connection.", 37 NC "No connection.", 38 NC "No connection.", 46 NC "No connection.", 47 NC "No connection.", 48 NC "No connection."